# EAGLE library part ISO1541D (library ISO1541D)
Check prices <https://pricing.snapeda.com/parts/ISO1541D/Texas%20Instruments/view-part?ref=eda>
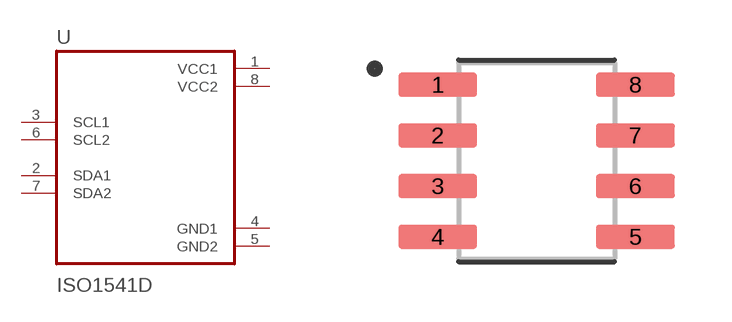
[diagram p0: symbol with the pads of SOIC127P599X175-8N; footprint SOIC127P599X175-8N]

Designator prefix U

## ISO1541D (AVAILABILITY: Good; DESCRIPTION: 2.5-kVrms, isolated unidirectional clock, bidirectional I2C isolator 8-SOIC -40 to 125; MF: Texas Instruments; MP: ISO1541D; PACKAGE: SOIC-8 Texas Instruments; PRICE: None; PURCHASE-URL: https://pricing.snapeda.com/search/part/ISO1541D/?ref=eda)  [SOIC127P599X175-8N]
1  VCC1  pwr
2  SDA1
3  SCL1
4  GND1  pwr
5  GND2  pwr
6  SCL2
7  SDA2
8  VCC2  pwr

## Footprint SOIC127P599X175-8N (pad centres in mm)
smd 1.97 x 0.6: 1 -2.47,1.905; 2 -2.47,0.635; 3 -2.47,-0.635; 4 -2.47,-1.905; 5 2.47,-1.905; 6 2.47,-0.635; 7 2.47,0.635; 8 2.47,1.905